# Altium footprint library OPL_Connector.PCBLIB: 45 footprints (part 1 of 3)
Each footprint in its own frame and in the unit in brackets; x right, y up, seen from the top. Pads: shape width x height; smd on the part's side, far side on the other; paste and mask are expansions set on the pad; w line width, h text height; cw(c..) or ccw(c..) is an arc to the next point about the centre after c.
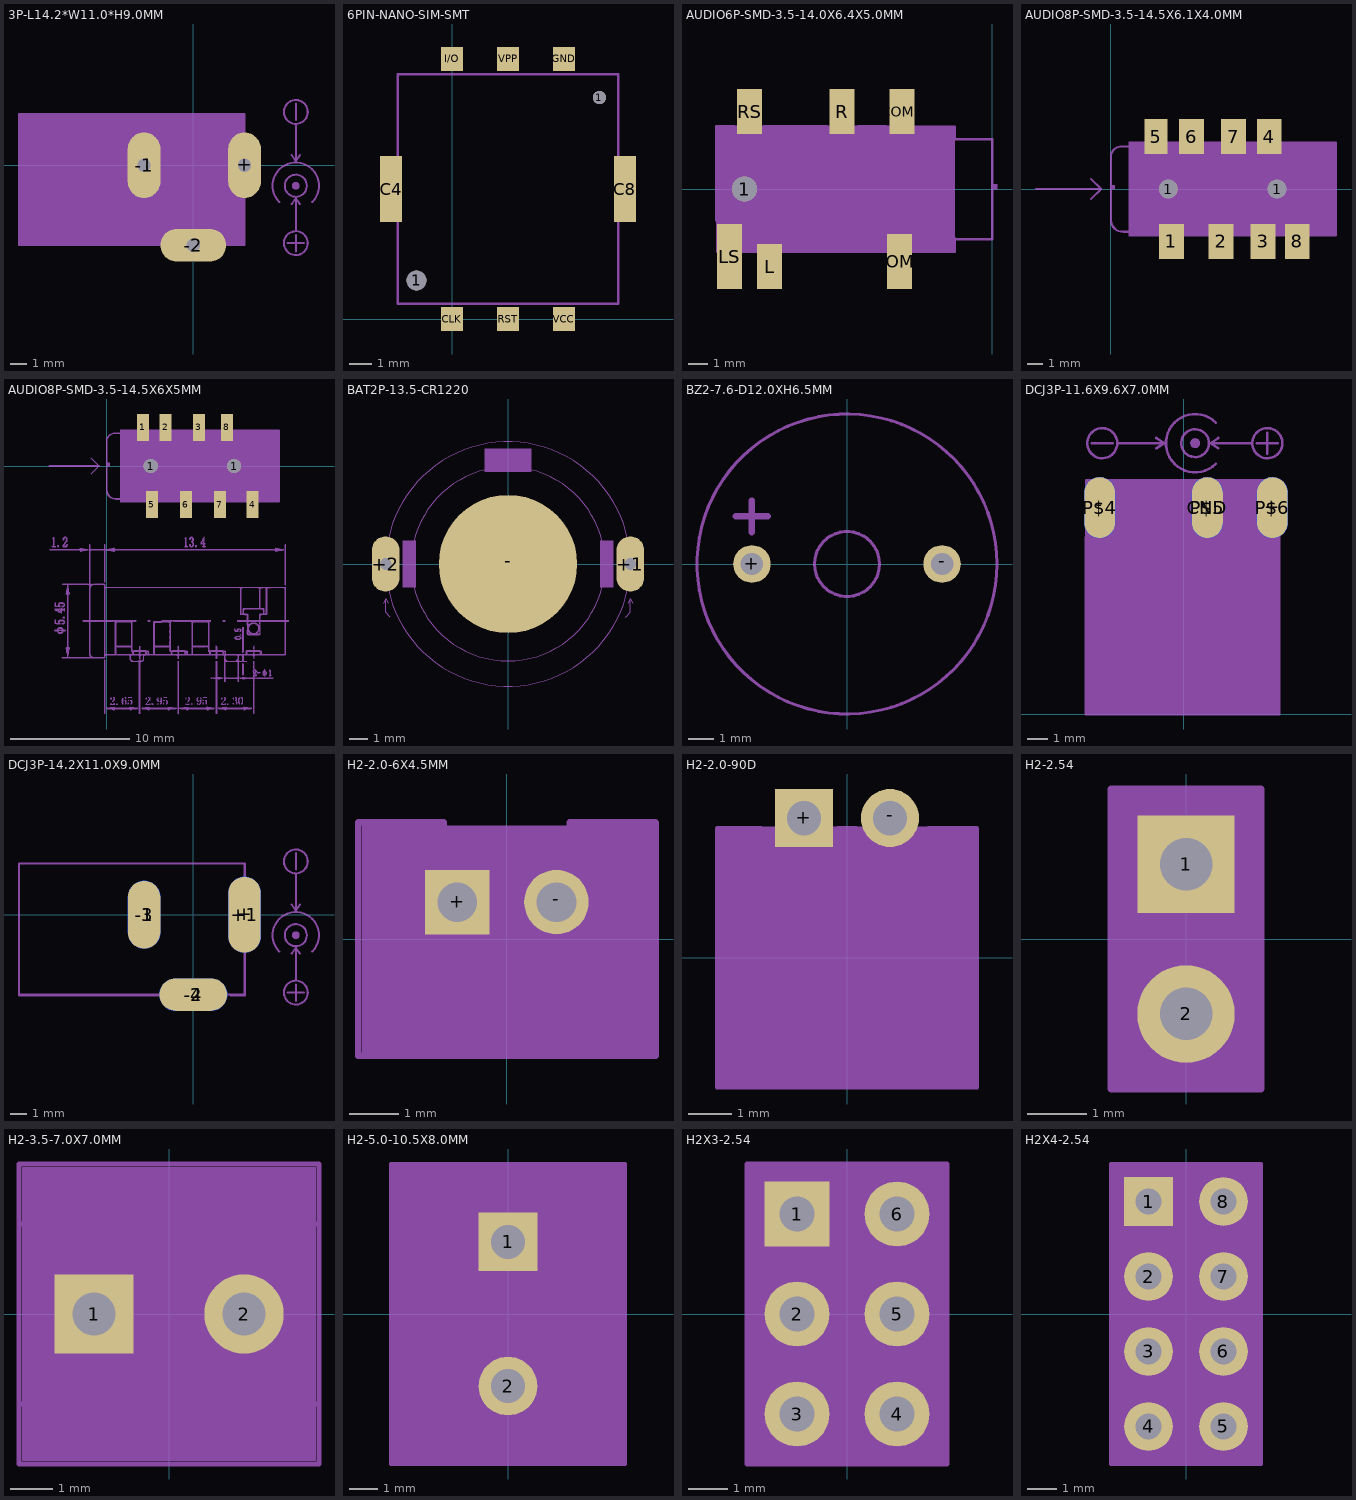
[diagram p0: the footprints below, top view; thin cyan lines are the x and y axes]

## 3P-L14.2*W11.0*H9.0MM [mil]
pads (3):
  oval 80x160 hole 32: +(125,0) -1(-120,0)
  oval 160x80 hole 32: -2(0,-195)
Mechanical 2:
  lines w5: -425,-195 125,-195 125,125 -425,125 -425,-195
Mechanical 3:
  circle w5: c250,-50 r26.93
  circle w5: c250,-50 r7.07
  circle w5: c250,-190 r29.15
  circle w5: c250,130 r29.15
  circle w5: c250,-50 r26.93
  circle w5: c250,-50 r7.07
  circle w5: c250,-190 r29.15
  circle w5: c250,130 r29.15
  lines w5: 230,-190 270,-190 ; 240,-95 250,-80 ; 240,25 250,10 ; 250,-210 250,-170 ; 250,-160 250,-80 ; 250,100 250,10 ; 250,110 250,150 ; 260,-95 250,-80 ; 260,25 250,10 ; 250,-55 250,-45 ; 250,-55 245,-50 250,-45 ; 250,-55 255,-50 250,-45 ; 210,-90 cw(c250,-50) 290,-90 ccw(c250,-50) 210,-90
Mech34:
  region: -424.02,-194.49 -424.02,123.23 124.8,123.23 124.8,-194.49
  lines w0: -425,-195 125,-195 125,125 -425,125 -425,-195
Mech36:
  region: 0,0 10,0 10,10 0,10
  region: 0,0 10,0 10,10 0,10
  region: 0,0 10,0 10,10 0,10
  lines w5: -50,-10 -70,0 ; -50,10 -70,0 ; -10,-125 0,-145 ; 0,-105 0,-145 ; 0,-75 0,0 ; 10,-125 0,-145 ; 55,-10 75,0 ; 55,10 75,0 ; -70,0 0,0 ; 0,0 75,0

## 6PIN-NANO-SIM-SMT [mm]
pads (10):
  round 0.9 hole 0.9: 1(-1.61,1.75)
  round 0.6 hole 0.6: 1(6.69,10.05)
  rect 1x3 smd: C4(-2.765,5.9) C8(7.845,5.9)
  rect 1x1.1 smd: CLK(0,0) GND(5.08,11.8) I/O(0,11.8) RST(2.54,0) VCC(5.08,0) VPP(2.54,11.8)
Mechanical 2:
  lines w0.127: -2.46,0.695 -2.46,11.105 7.54,11.105 7.54,0.695 -2.46,0.695

## AUDIO6P-SMD-3.5-14.0X6.4X5.0MM [mil]
pads (7):
  round 50 hole 50: 1(-495,0)
  rect 50x90 smd: COM1(-180,155) L(-445,-155) R(-300,155) RS(-485,155)
  rect 50x110 smd: COM2(-185,-145)
  rect 50x130 smd: LS(-525,-135)
Mechanical 1:
  lines w1: -127.56,-125 -127.56,125
Mechanical 2:
  lines w5: -551.18,-62.99 -551.18,125.98 -515.75,125.98 ; -496.06,-125.98 -476.38,-125.98 ; -456.69,125.98 -330.71,125.98 ; -413.39,-125.98 -216.54,-125.98 ; -267.72,125.98 -212.6,125.98 ; -153.54,-125.98 -74.8,-125.98 -74.8,-98.43 ; -149.61,125 -74.8,125 -74.8,102.36 ; -75,-100 0,-100 0,100 -75,100
Mechanical 8:
  lines w5: -75,-100 -75,-125 -550,-125 -550,125 -75,125 -75,100
Mech34:
  region: -550,-125 -550,125 -75,125 -75,-125
Mech36:
  region: 0,0 10,0 10,10 0,10

## AUDIO8P-SMD-3.5-14.5X6.1X4.0MM [mm]
pads (10):
  round 1.2 hole 1.2: 1(3.7,0) 1(10.7,0)
  rect 1.6x2.25 smd: 1(3.9,-3.375) 2(7.1,-3.375) 3(9.8,-3.375) 4(10.2,3.375) 6(5.2,3.375) 7(7.9,3.375) 8(12,-3.375)
  rect 1.5x2.25 smd: 5(2.9,3.375)
Mechanical 2:
  lines w0.127: 1.2,-2.75 0.719,-2.75 cw(c0.719,-2.031) 0,-2.031 0,2.062 cw(c0.688,2.062) 0.688,2.75 1.2,2.75 ; 1.2,-2.75 1.2,-3 14.5,-3 14.5,3 1.2,3 1.2,2.75 ; 1.2,-2.75 1.2,2.75
Mech34:
  region: 1.143,-3.048 1.143,3.048 14.478,3.048 14.478,-3.048
Mech36:
  region: 0,0 0.254,0 0.254,0.254 0,0.254
  lines w0.025: 0,-1.869 0,2.021 cw(c0.71,2.021) 0.71,2.73 1.206,2.73 1.206,-2.794 0.925,-2.794 cw(c0.925,-1.869) 0,-1.869
  lines w0.127: -4.826,0 -0.635,0 ; -1.27,-0.635 -0.635,0 ; -1.27,0.635 -0.635,0

## AUDIO8P-SMD-3.5-14.5X6X5MM [mm]
pads (10):
  rect 1x2.25 smd: 1(3.05,3.24) 2(4.95,3.24) 3(7.75,3.24) 4(12.26,-3.24) 5(3.81,-3.24) 6(6.66,-3.24) 7(9.51,-3.24) 8(10.1,3.24)
  round 1.2 hole 1.2: 1(3.7,0) 1(10.7,0)
Mechanical 2:
  lines w0.127: 2.4,3 1.2,3 1.2,2.75 ; 3.2,-3 1.2,-3 1.2,-2.75 ; 3.7,3 4.3,3 ; 4.5,-3 6,-3 ; 5.6,3 7.1,3 ; 7.4,-3 8.8,-3 ; 8.4,3 9.5,3 ; 10.2,-3 11.6,-3 ; 10.8,3 14.5,3 14.5,-3 13,-3 ; 1.2,-2.75 0.719,-2.75 cw(c0.719,-2.031) 0,-2.031 0,2.062 cw(c0.688,2.062) 0.688,2.75 1.2,2.75 ; 1.2,-2.75 1.2,2.75
Mechanical 8:
  lines w0.127: 1.2,-3 14.5,-3 ; 1.2,3 14.5,3
Mech34:
  region: 1.143,-3.048 1.143,3.048 14.478,3.048 14.478,-3.048
Mech36:
  region: 0,0 0.254,0 0.254,0.254 0,0.254
  lines w0.025: 0,-1.869 0,2.021 cw(c0.71,2.021) 0.71,2.73 1.206,2.73 1.206,-2.794 0.925,-2.794 cw(c0.925,-1.869) 0,-1.869
  lines w0.127: -4.826,0 -0.635,0 ; -1.27,-0.635 -0.635,0 ; -1.27,0.635 -0.635,0
Mech39:
  drawing of 4872 lines, arcs and shapes, not listed

## BAT2P-13.5-CR1220 [mil]
pads (3):
  oval 60x120 hole 25: +1(265,0) +2(-265,0)
  rrect100% 300x300 smd: -(0,0)
Mechanical 2:
  region: -50,200 -50,250 50,250 50,200
  region: -228.35,-50 -228.35,50 -200,50 -200,-50
  region: 200,-50 200,50 228.35,50 228.35,-50
Mechanical 8:
  circle w0: c0,0 r210
Mech34:
  circle w0: c0,0 r265
Mech36:
  region: 0,0 10,0 10,10 0,10
  region: 0,0 10,0 10,10 0,10
  lines w1: -270,-85 -265,-75 ; -260,-85 -265,-75 ; -255,-115 -265,-105 -265,-75 ; 255,-115 265,-105 265,-75 ; 260,-85 265,-75 ; 270,-85 265,-75

## BZ2-7.6-D12.0XH6.5MM [mil]
pads (2):
  round 59.06 hole 35.43: +(-149.61,0) -(149.61,0)
Mechanical 2:
  circle w5: c0,0 r236.22
  circle w5: c0,0 r51.18
  lines w10: -175,75 -150,75 ; -150,50 -150,75 ; -150,100 -150,75 ; -125,75 -150,75
Mech34:
  circle w5: c0,0 r236.22

## DCJ3P-11.6X9.6X7.0MM [mm]
pads (6):
  rrect100% 1.52x3 smd paste-1.5: +(4.373,10.16) -(-4.127,10.16) CND(1.172,10.16)
  rrect100% 1.52x3 smd far side paste-1.5: P$4(-4.127,10.16) P$5(1.172,10.16) P$6(4.373,10.16)
Mechanical 1:
  lines w0.025: -0.194,3.4 ccw(c0.007,3.4) 0.007,3.2 1.406,3.2 ccw(c1.406,3.4) 1.607,3.4 1.607,4.8 ccw(c1.407,4.8) 1.406,5 0.007,5 ccw(c0.006,4.8) -0.194,4.8 -0.194,3.4
Mechanical 2:
  lines w0.127: -4.8,0 -4.8,8.7 ; -4.793,0 4.7,0 ; -3.3,11.5 0.4,11.5 ; 1.9,11.5 3.7,11.5 ; 4.7,8.5 4.7,0 ; 4.707,0 4.7,0
Mechanical 3:
  circle w0.127: c0.572,13.335 r0.684
  circle w0.127: c0.572,13.335 r0.18
  circle w0.127: c4.127,13.335 r0.74
  circle w0.127: c-4,13.335 r0.74
  circle w0.127: c0.572,13.335 r0.684
  circle w0.127: c0.572,13.335 r0.18
  circle w0.127: c4.127,13.335 r0.74
  circle w0.127: c-4,13.335 r0.74
  lines w0.127: -4.508,13.335 -3.492,13.335 ; -3.238,13.335 -0.953,13.335 ; -1.333,13.081 -0.953,13.335 ; -1.333,13.589 -0.953,13.335 ; 1.714,13.081 1.333,13.335 ; 1.714,13.589 1.333,13.335 ; 3.365,13.335 1.333,13.335 ; 3.619,13.335 4.635,13.335 ; 4.127,12.827 4.127,13.843 ; 0.445,13.335 0.699,13.335 ; 0.445,13.335 0.572,13.208 0.699,13.335 ; 0.445,13.335 0.572,13.462 0.699,13.335 ; 1.587,12.319 cw(c0.572,13.335) 1.587,14.351 ccw(c0.572,13.335) 1.587,12.319
Mechanical 8:
  lines w0.127: -4.793,0 -4.793,11.5 4.707,11.5 4.707,0
Mech34:
  region: -4.793,0 -4.793,11.5 4.707,11.5 4.707,0
Mech36:
  region: 0,0 0.254,0 0.254,0.254 0,0.254
  region: 0,0 0.254,0 0.254,0.254 0,0.254
  region: 0,0 0.254,0 0.254,0.254 0,0.254
  region: 0,0 0.254,0 0.254,0.254 0,0.254
  region: 0,0 0.254,0 0.254,0.254 0,0.254

## DCJ3P-14.2X11.0X9.0MM [mm]
pads (6):
  rrect100% 2x4.7 smd paste-2.35: +(3.175,0)
  rrect100% 2x4.7 smd far side paste-2.35: +1(3.175,0)
  rrect100% 2x4.2 smd paste-2.1: -1(-3.048,0)
  rrect100% 4.2x2 smd paste-2.1: -2(0,-4.953)
  rrect100% 2x4.2 smd far side paste-2.1: -3(-3.048,0)
  rrect100% 4.2x2 smd far side paste-2.1: -4(0,-4.953)
Mechanical 2:
  lines w0.127: -10.8,-4.9 -10.8,-5 -2.2,-5 ; -10.795,-4.953 -10.795,3.175 3.175,3.175 ; 2.3,-5 3.2,-5 3.2,-2.2 ; 3.2,2.2 3.2,3.175
Mechanical 3:
  circle w0.127: c6.35,-1.27 r0.684
  circle w0.127: c6.35,-1.27 r0.18
  circle w0.127: c6.35,-4.826 r0.74
  circle w0.127: c6.35,3.302 r0.74
  circle w0.127: c6.35,-1.27 r0.684
  circle w0.127: c6.35,-1.27 r0.18
  circle w0.127: c6.35,-4.826 r0.74
  circle w0.127: c6.35,3.302 r0.74
  lines w0.127: 5.842,-4.826 6.858,-4.826 ; 6.096,-2.413 6.35,-2.032 ; 6.096,0.635 6.35,0.254 ; 6.35,-5.334 6.35,-4.318 ; 6.35,-4.064 6.35,-2.032 ; 6.35,2.54 6.35,0.254 ; 6.35,2.794 6.35,3.81 ; 6.604,-2.413 6.35,-2.032 ; 6.604,0.635 6.35,0.254 ; 6.35,-1.397 6.35,-1.143 ; 6.35,-1.397 6.223,-1.27 6.35,-1.143 ; 6.35,-1.397 6.477,-1.27 6.35,-1.143 ; 5.334,-2.286 cw(c6.35,-1.27) 7.366,-2.286 ccw(c6.35,-1.27) 5.334,-2.286
Mechanical 8:
  lines w0.127: -10.795,-4.953 3.175,-4.953 3.175,3.175
Mech34:
  lines w0: -10.795,-4.953 3.175,-4.953 3.175,3.175 -10.795,3.175 -10.795,-4.953
Mech36:
  lines w0.1: -3.429,-1.016 ccw(c-3.048,-1.016) -2.667,-1.016 -2.667,1.016 ccw(c-3.048,1.016) -3.429,1.016 -3.429,-1.016 ; 2.794,-1.397 ccw(c3.175,-1.397) 3.556,-1.397 3.556,1.397 ccw(c3.175,1.397) 2.794,1.397 2.794,-1.397
  lines w0.127: -1.143,-4.572 ccw(c-1.079,-4.953) -1.016,-5.334 1.016,-5.334 ccw(c0.953,-4.953) 0.889,-4.572 -1.143,-4.572

## H2-2.0-6X4.5MM [mil]
pads (2):
  rect 51.18x51.18 hole 31.5: +(-39.37,29.53)
  round 51.18 hole 31.5: -(39.37,29.53)
Mechanical 2:
  lines w5: -118.11,92.52 -118.11,-92.52 118.11,-92.52 118.11,92.52 ; -118,93 -50,93 -50,73 50,73 50,93 118,93
Mech34:
  region: 120,90 120,-90 -115,-90 -115,90

## H2-2.0-90D [mm]
pads (2):
  rect 1.35x1.35 hole 0.8: +(-1,3.25)
  round 1.35 hole 0.8: -(1,3.25)
Mechanical 2:
  lines w0.127: -2,3 -3,3 -3,-3 3,-3 3,3 1.9,3 ; -0.2,3 0.2,3
Mech34:
  region: -3.048,-3.048 -3.048,3.048 3.048,3.048 3.048,-3.048

## H2-2.54 [mil]
pads (2):
  rect 65x65 hole 35: 1(0,50)
  round 65 hole 35: 2(0,-50)
Mechanical 2:
  lines w5: -50,-100 50,-100 50,100 -50,100 -50,-100
Mech34:
  region: -50,-100 -50,100 50,100 50,-100
  lines w0: -50,-100 -50,100 50,100 50,-100

## H2-3.5-7.0X7.0MM [mm]
pads (2):
  rect 1.85x1.85 hole 1: 1(-1.75,0)
  round 1.85 hole 1: 2(1.75,0)
Mechanical 2:
  circle w0.127: c-1.73,0 r1.5
  circle w0.127: c1.73,0 r1.5
  lines w0.127: -3.5,-2.1 -3.5,-3.5 3.5,-3.5 3.5,-2.1 ; -3.5,-2.1 -3.5,2.1 ; -3.5,-2.1 3.5,-2.1 ; -3.5,2.1 -3.5,3.5 3.5,3.5 3.5,2.1 ; -3.5,2.1 3.5,2.1 ; 3.5,-2.1 3.5,2.1
Mech34:
  region: -3.429,-3.429 -3.429,3.429 3.429,3.429 3.429,-3.429

## H2-5.0-10.5X8.0MM [mil]
pads (2):
  rect 80x80 hole 46: 1(0,98.43)
  round 80 hole 46: 2(0,-98.43)
Mechanical 2:
  circle w5: c0,100 r90.14
  circle w5: c0,-100 r90.14
  lines w5: -160,-205 160,-205 160,205 -160,205 -160,-205 ; -100,-195 100,-195 100,195 -100,195 -100,-195
Mech34:
  region: -160,-205 -160,205 160,205 160,-205

## H2X3-2.54 [mil]
pads (6):
  rect 65x65 hole 35: 1(-50,100)
  round 65 hole 35: 2(-50,0) 3(-50,-100) 4(50,-100) 5(50,0) 6(50,100)
Mechanical 2:
  lines w5: -100,-150 100,-150 100,150 -100,150 -100,-150
Mech34:
  region: -100,-150 -100,150 100,150 100,-150
  lines w0: -100,-150 100,-150 100,150 -100,150 -100,-150

## H2X4-2.54 [mil]
pads (8):
  rect 65x65 hole 35: 1(-50,150)
  round 65 hole 35: 2(-50,50) 3(-50,-50) 4(-50,-150) 5(50,-150) 6(50,-50) 7(50,50) 8(50,150)
Mechanical 2:
  lines w5: -100,-200 100,-200 100,200 -100,200 -100,-200
Mech34:
  region: -100,-200 -100,200 100,200 100,-200